# Altium footprint library microswitches.PcbLib: 31 footprints (part 1 of 2)
Each footprint in its own frame and in the unit in brackets; x right, y up, seen from the top. Pads: shape width x height; smd on the part's side, far side on the other; paste and mask are expansions set on the pad; w line width, h text height; cw(c..) or ccw(c..) is an arc to the next point about the centre after c.
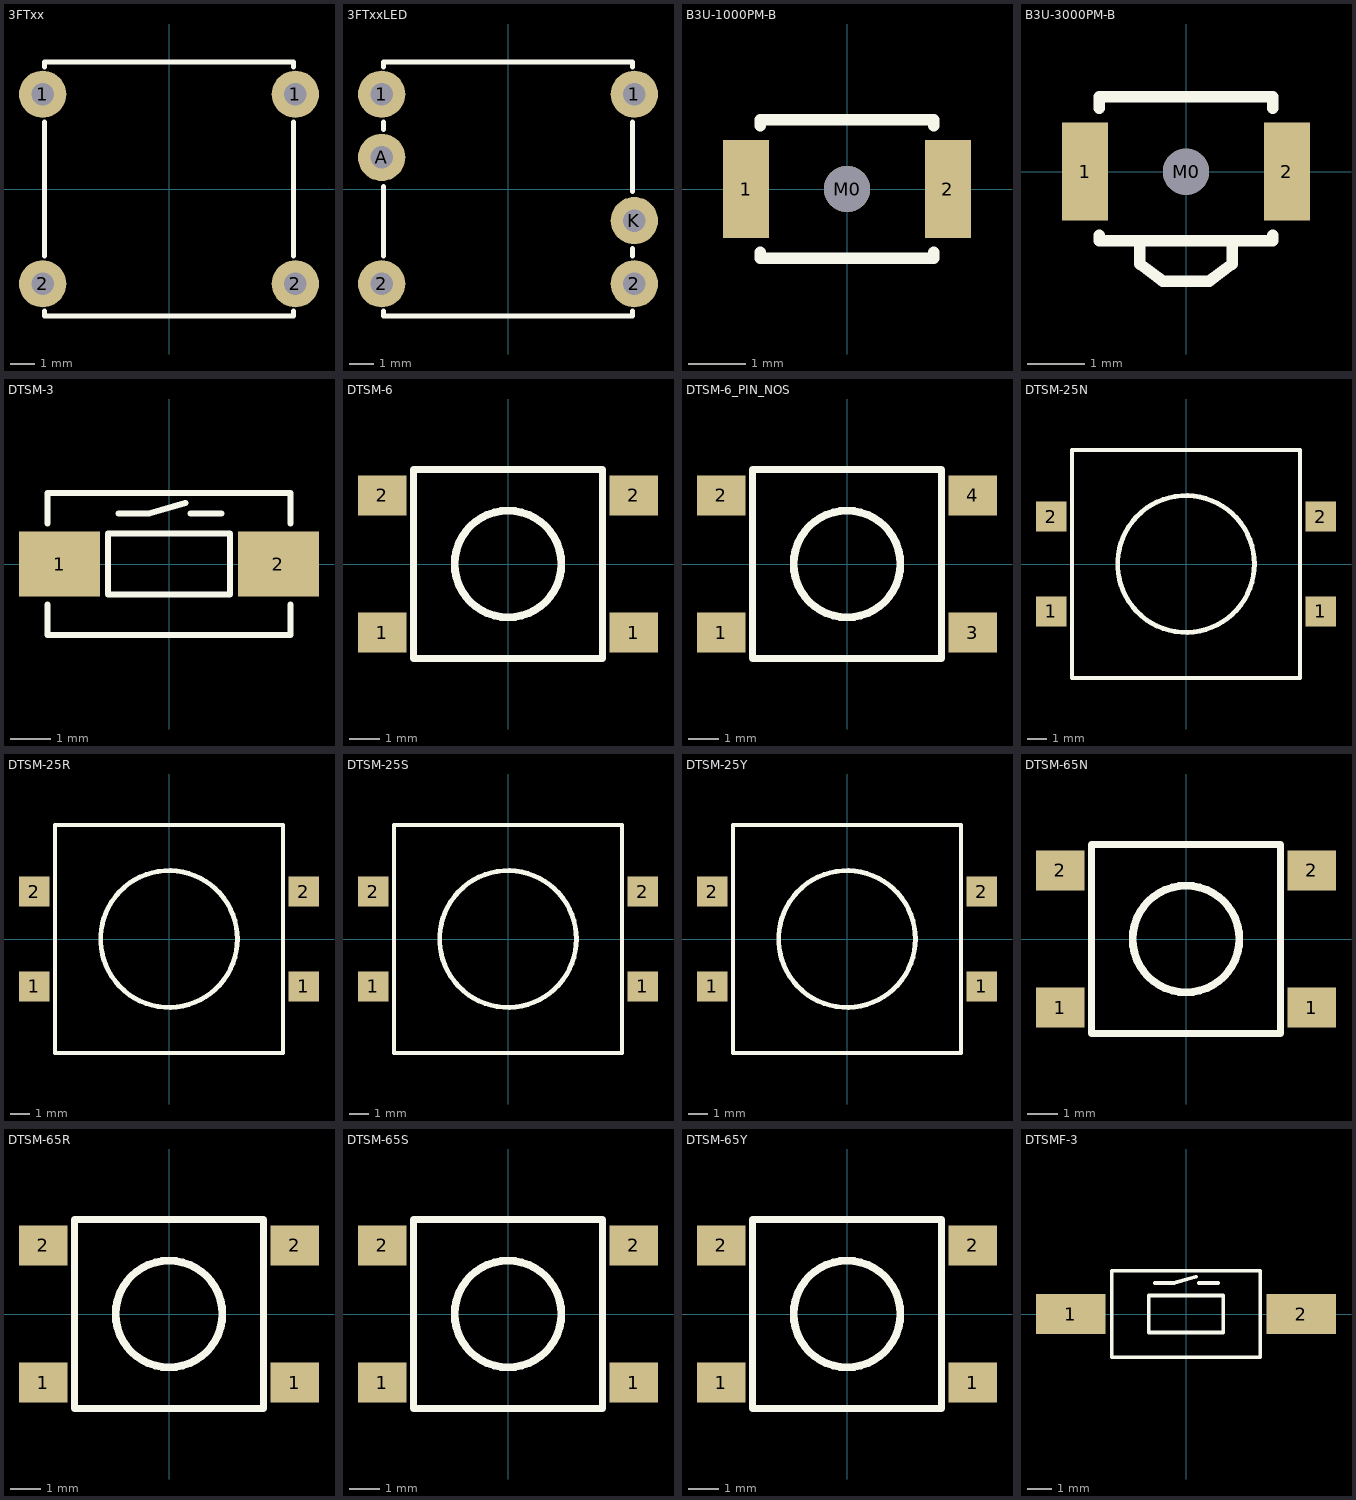
[diagram p0: the footprints below, top view; thin cyan lines are the x and y axes]

## 3FTxx [mm] "MEC 10,1x10,1mm Through-Hole Tactile SPST-NO Switch"
pads (4):
  round 1.9 hole 0.9: 1(-5.08,3.81) 1(5.08,3.81) 2(-5.08,-3.81) 2(5.08,-3.81)
Top Overlay:
  lines w0.2: -5,-4.9 -5,-5.1 5,-5.1 5,-4.9 ; -5,-2.7 -5,2.7 ; -5,4.9 -5,5.1 5,5.1 5,4.9 ; 5,-2.7 5,2.7
3D body "User Library-3FTH9 1P00 (1).STEP": height 10.4, standoff -4, extent -5.35,-5.05 5.35,5.05

## 3FTxxLED [mm] "MEC 10,1x10,1mm Through-Hole Tactile SPST-NO Switch"
pads (6):
  round 1.9 hole 0.9: 1(-5.08,3.81) 1(5.08,3.81) 2(-5.08,-3.81) 2(5.08,-3.81) A(-5.08,1.27) K(5.08,-1.27)
Top Overlay:
  lines w0.2: -5,-4.9 -5,-5.1 5,-5.1 5,-4.9 ; -5,-2.7 -5,0.1 ; -5,2.4 -5,2.7 ; -5,4.9 -5,5.1 5,5.1 5,4.9 ; 5,-2.7 5,-2.4 ; 5,-0.1 5,2.7
3D body "User Library-MEC 3FTL68020.step": height 12.1, standoff -4, extent -5.35,-5.05 5.35,5.05

## B3U-1000PM-B [mm] "OMRON Ultra-small Tactile Switch B2U Series"
pads (3):
  rect 0.8x1.7 smd: 1(-1.75,0) 2(1.75,0)
  round 0.8 hole 0.8: M0(0,0)
Top Overlay:
  lines w0.2: -1.5,-1.1 -1.5,-1.2 1.5,-1.2 1.5,-1.1 ; -1.5,1.1 -1.5,1.2 1.5,1.2 1.5,1.1
3D body "B3U_1000P[]_B.step": height 1.6, standoff -0.5, extent -2,-1.25 2,1.25

## B3U-3000PM-B [mm] "OMRON Ultra-small Tactile Switch B2U Series"
pads (3):
  rect 0.8x1.7 smd: 1(-1.75,0) 2(1.75,0)
  round 0.8 hole 0.8: M0(0,0)
Top Overlay:
  lines w0.2: -1.5,-1.1 -1.5,-1.2 1.5,-1.2 1.5,-1.1 ; -1.5,1.1 -1.5,1.3 1.5,1.3 1.5,1.1 ; -0.8,-1.2 -0.8,-1.6 -0.4,-1.9 0.4,-1.9 0.8,-1.6 0.8,-1.2
3D body "B3U_3000P[]_B.step": height 1.2, standoff -0.5, extent -2,-1.95 2,1.25

## DTSM-3 [mm]
height 5
pads (2):
  rect 2x1.6 smd: 1(-2.7,0) 2(2.7,0)
Top Overlay:
  lines w0.15: -3,-1 -3,-1.75 3,-1.75 3,-1 ; -3,1 -3,1.75 3,1.75 3,1 ; -1.25,1.25 -0.488,1.25 0.401,1.504 ; 0.528,1.25 1.29,1.25 ; -1.5,-0.75 1.5,-0.75 1.5,0.75 -1.5,0.75 -1.5,-0.75
3D body: height 3.5, standoff 0, extent -3,-1.75 3,1.75
3D body: height 5, standoff 3.5, extent -1.5,-0.75 1.5,0.75
3D body: height 0.9, standoff 0, extent 3,-0.5 3.6,0.5
3D body: height 0.9, standoff 0, extent -3.6,-0.5 -3,0.5

## DTSM-6 [mm]
height 5
pads (4):
  rect 1.6x1.3 smd: 1(-4.125,-2.25) 1(4.125,-2.25) 2(-4.125,2.25) 2(4.125,2.25)
Top Overlay:
  circle w0.254: c0,0 r1.752
  lines w0.229: -3.1,-3.1 -3.1,3.1 3.1,3.1 3.1,-3.1 -3.1,-3.1
3D body "CircuitWorks-TACT SMD 6X6.step": height 5, standoff -0.05, extent -4.075,-3 4.075,3

## DTSM-6_PIN_NOS [mm]
height 5
pads (4):
  rect 1.6x1.3 smd: 1(-4.125,-2.25) 2(-4.125,2.25) 3(4.125,-2.25) 4(4.125,2.25)
Top Overlay:
  circle w0.254: c0,0 r1.752
  lines w0.229: -3.1,-3.1 -3.1,3.1 3.1,3.1 3.1,-3.1 -3.1,-3.1
3D body "CircuitWorks-TACT SMD 6X6.step": height 5, standoff -0.05, extent -4.075,-3 4.075,3

## DTSM-25N [mm] "Diptronics SPST-NO, 50mA/12VDC Brown TACT Switch"
pads (4):
  rect 1.6x1.6 smd: 1(-7.1,-2.5) 1(7.1,-2.5) 2(-7.1,2.5) 2(7.1,2.5)
Top Overlay:
  circle w0.254: c0,0 r3.601
  lines w0.229: -6,-6 6,-6 6,6 -6,6 -6,-6
3D body "Diptronics_DTSM25_BROWN.STEP": height 8.5, standoff 0, extent -7.5,-6 7.5,6

## DTSM-25R [mm] "Diptronics SPST-NO, 50mA/12VDC Red TACT Switch"
pads (4):
  rect 1.6x1.6 smd: 1(-7.1,-2.5) 1(7.1,-2.5) 2(-7.1,2.5) 2(7.1,2.5)
Top Overlay:
  circle w0.254: c0,0 r3.601
  lines w0.229: -6,-6 -6,6 6,6 6,-6 -6,-6
3D body "Diptronics_DTSM25_RED.STEP": height 8.5, standoff 0, extent -7.5,-6 7.5,6

## DTSM-25S [mm] "Diptronics SPST-NO, 50mA/12VDC Orange TACT Switch"
pads (4):
  rect 1.6x1.6 smd: 1(-7.1,-2.5) 1(7.1,-2.5) 2(-7.1,2.5) 2(7.1,2.5)
Top Overlay:
  circle w0.254: c0,0 r3.601
  lines w0.229: -6,-6 6,-6 6,6 -6,6 -6,-6
3D body "Diptronics_DTSM25_ORANGE.STEP": height 8.5, standoff 0, extent -7.5,-6 7.5,6

## DTSM-25Y [mm] "Diptronics SPST-NO, 50mA/12VDC Yellow TACT Switch"
pads (4):
  rect 1.6x1.6 smd: 1(-7.1,-2.5) 1(7.1,-2.5) 2(-7.1,2.5) 2(7.1,2.5)
Top Overlay:
  circle w0.254: c0,0 r3.601
  lines w0.229: -6,-6 6,-6 6,6 -6,6 -6,-6
3D body "Diptronics_DTSM25_YELLOW.STEP": height 8.5, standoff 0, extent -7.5,-6 7.5,6

## DTSM-65N [mm] "Diptronics SPST-NO, 50mA/12VDC Brown TACT Switch"
height 5
pads (4):
  rect 1.6x1.3 smd: 1(-4.125,-2.25) 1(4.125,-2.25) 2(-4.125,2.25) 2(4.125,2.25)
Top Overlay:
  circle w0.254: c0,0 r1.752
  lines w0.229: -3.1,-3.1 -3.1,3.1 3.1,3.1 3.1,-3.1 -3.1,-3.1
3D body "Diptronics_DTSM65_BROWN.STEP": height 9.55, standoff -0.07, extent -4.544,-3.1 4.544,3.1

## DTSM-65R [mm] "Diptronics SPST-NO, 50mA/12VDC Red TACT Switch"
height 5
pads (4):
  rect 1.6x1.3 smd: 1(-4.125,-2.25) 1(4.125,-2.25) 2(-4.125,2.25) 2(4.125,2.25)
Top Overlay:
  circle w0.254: c0,0 r1.752
  lines w0.229: -3.1,-3.1 -3.1,3.1 3.1,3.1 3.1,-3.1 -3.1,-3.1
3D body "Diptronics_DTSM65_RED.STEP": height 9.55, standoff -0.07, extent -4.544,-3.1 4.544,3.1

## DTSM-65S [mm] "Diptronics SPST-NO, 50mA/12VDC Orange TACT Switch"
height 5
pads (4):
  rect 1.6x1.3 smd: 1(-4.125,-2.25) 1(4.125,-2.25) 2(-4.125,2.25) 2(4.125,2.25)
Top Overlay:
  circle w0.254: c0,0 r1.752
  lines w0.229: -3.1,-3.1 3.1,-3.1 3.1,3.1 -3.1,3.1 -3.1,-3.1
3D body "Diptronics_DTSM65_ORANGE.STEP": height 9.55, standoff -0.07, extent -4.544,-3.1 4.544,3.1

## DTSM-65Y [mm] "Diptronics SPST-NO, 50mA/12VDC Yellow  TACT Switch"
height 5
pads (4):
  rect 1.6x1.3 smd: 1(-4.125,-2.25) 1(4.125,-2.25) 2(-4.125,2.25) 2(4.125,2.25)
Top Overlay:
  circle w0.254: c0,0 r1.752
  lines w0.229: -3.1,-3.1 -3.1,3.1 3.1,3.1 3.1,-3.1 -3.1,-3.1
3D body "Diptronics_DTSM65_YELLOW.STEP": height 9.55, standoff -0.07, extent -4.544,-3.1 4.544,3.1

## DTSMF-3 [mm]
height 5
pads (2):
  rect 2.8x1.6 smd: 1(-4.65,0) 2(4.65,0)
Top Overlay:
  lines w0.15: -1.25,1.25 -0.488,1.25 0.401,1.504 ; 0.528,1.25 1.29,1.25 ; -3,-1.75 3,-1.75 3,-1 3,1.75 -3,1.75 -3,-1 -3,-1.75 ; -1.5,-0.75 1.5,-0.75 1.5,0.75 -1.5,0.75 -1.5,-0.75